# Altium schematic symbol library Generators.SchLib: 9 symbols
Pins are listed as number, name and electrical type; pins without a type are passive.

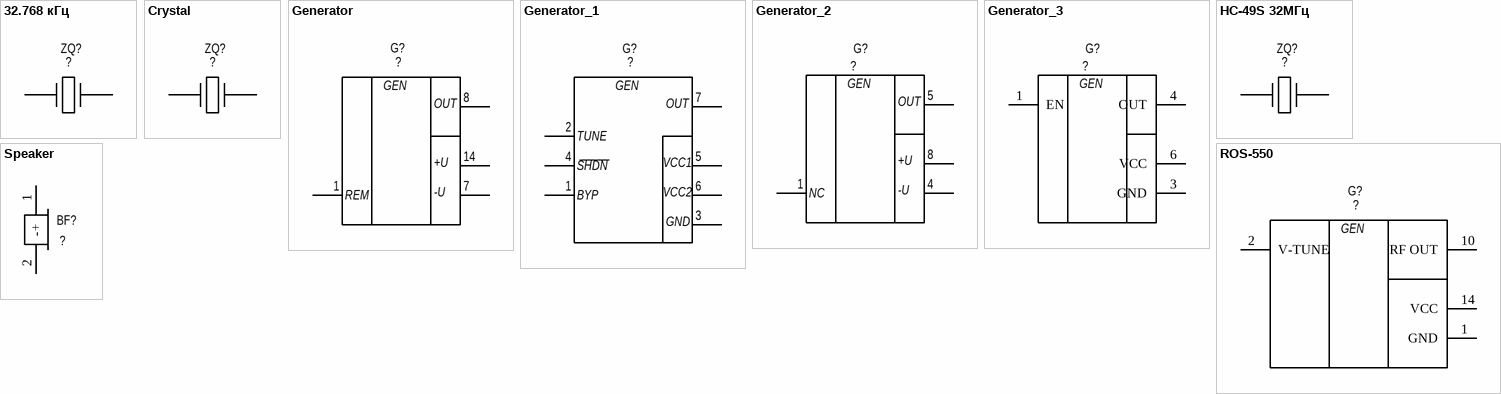
[diagram p0: symbols 32.768 кГц to Speaker]

## 32.768 кГц
designator ZQ?, comment ?
Type: ?; value: ?
footprint Crystal_1
pins: 1, 2

## Crystal
designator ZQ?, comment ?
Type: ?; value: ?
pins: 1, 2

## Generator
designator G?, comment ?
Type: ?; value: ?
pins: 1 REM, 7 U-, 8 OUT, 14 U+
text: GEN; +U; -U

## Generator_1
designator G?, comment ?
Type: ?; value: ?
pins: 1 BYP, 2 TUNE, 3 GND, 4 SHDN, 5 VCC1, 6 VCC2, 7 OUT
text: GEN

## Generator_2
designator G?, comment ?
Type: ?; value: ?
pins: 1 NC, 4 U-, 5 OUT, 8 U+
text: GEN; +U; -U

## Generator_3
designator G?, comment ?
Type: ?; value: ?
pins: 1 EN, 3 GND, 4 OUT, 6 VCC
text: GEN

## HC-49S 32МГц
designator ZQ?, comment ?
Type: ?; value: ?
pins: 1, 2

## ROS-550
designator G?, comment ?
Voltage Controlled Oscillator; Type: ?; value: ?
pins: 1 GND, 2 V-TUNE, 3 GND hidden to GND, 4 GND hidden to GND, 5 GND hidden to GND, 6 GND hidden to GND, 7 GND hidden to GND, 8 GND hidden to GND, 9 GND hidden to GND, 10 RF OUT, 11 GND hidden to GND, 12 GND hidden to GND, 13 GND hidden to GND, 14 VCC, 15 GND hidden to GND, 16 GND hidden to GND
text: GEN

## Speaker
designator BF?, comment ?
Type: ?; value: ?
pins: 1 +, 2 -